# Altium footprint library Other.PcbLib: 12 footprints
Each footprint in its own frame and in the unit in brackets; x right, y up, seen from the top. Pads: shape width x height; smd on the part's side, far side on the other; paste and mask are expansions set on the pad; w line width, h text height; cw(c..) or ccw(c..) is an arc to the next point about the centre after c.
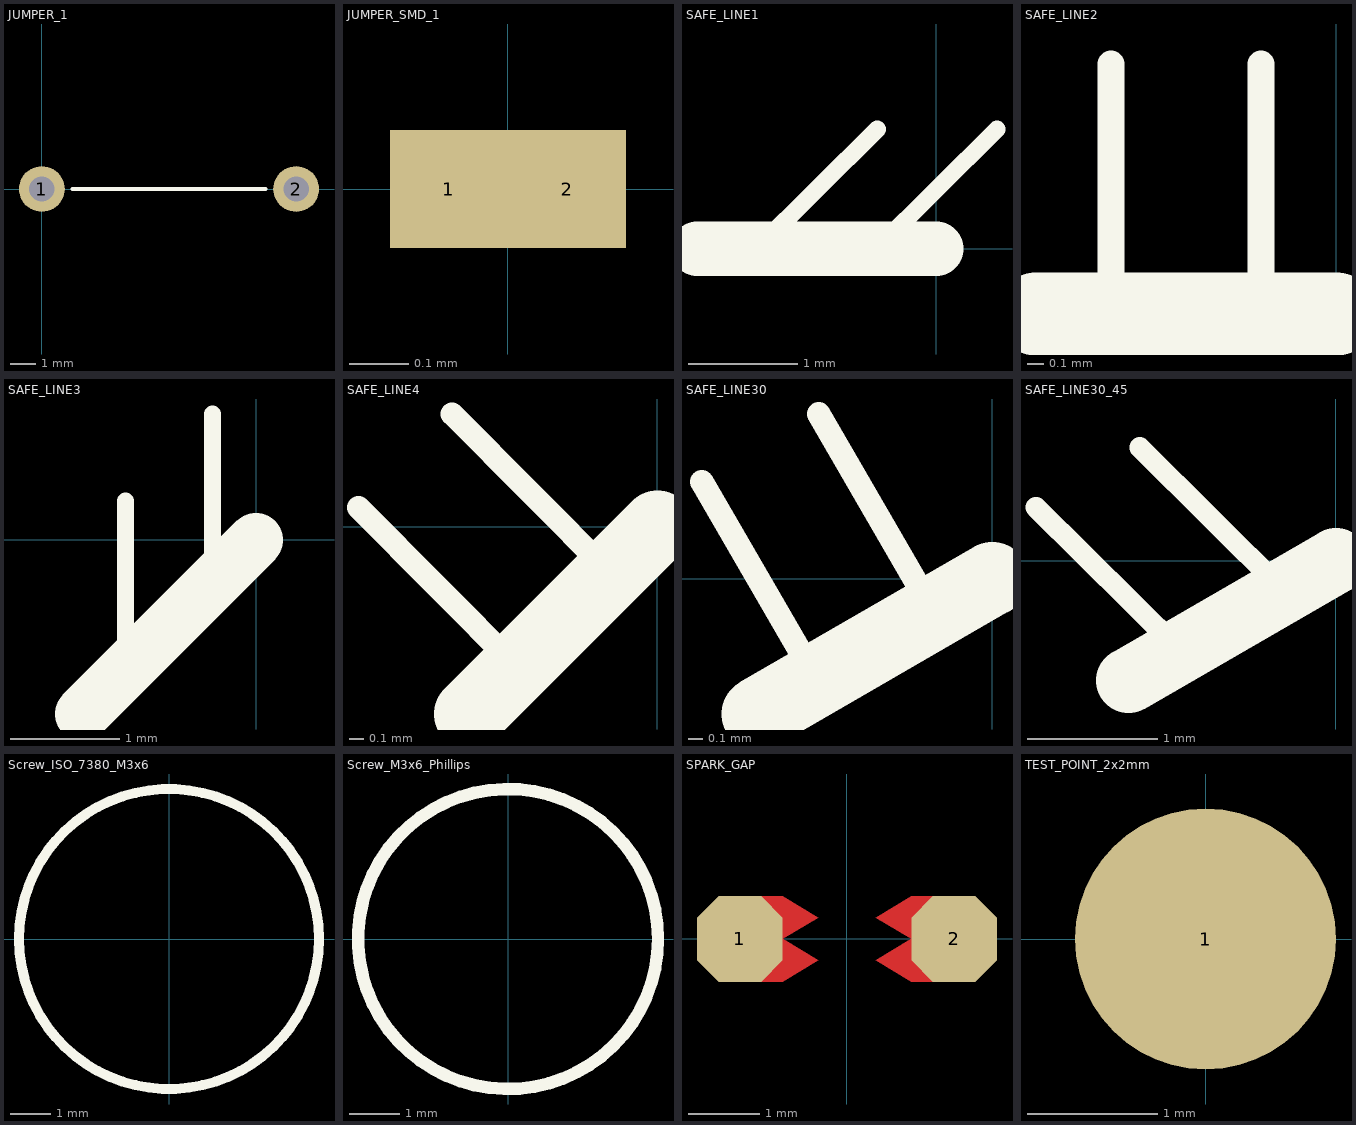
[diagram p0: the footprints below, top view; thin cyan lines are the x and y axes]

## JUMPER_1 [mm]
height 1
pads (2):
  round 1.8 hole 1: 1(0,0) 2(10,0)
Top Overlay:
  lines w0.15: 1.2,0 8.8,0
3D body: height 0.8, standoff 0, extent 0,-0.399 10,0.399
3D body: height 0, standoff -3, extent 9.603,-0.399 10.4,0.399
3D body: height 0, standoff -3, extent -0.397,-0.399 0.4,0.399

## JUMPER_SMD_1 [mm]
height 1
pads (2):
  rect 0.2x0.2 smd paste-2539.97 mask+0.102: 1(-0.1,0) 2(0.1,0)

## SAFE_LINE1 [mm]
Top Overlay:
  lines w0.16: -1.65,0 -0.543,1.1 ; -0.55,0 0.557,1.1
  lines w0.5: -2.2,0 0,0

## SAFE_LINE2 [mm]
Top Overlay:
  lines w0.16: -1.35,0 -1.35,1.5 ; -0.45,0 -0.45,1.5
  lines w0.5: -1.8,0 0,0

## SAFE_LINE3 [mm]
Top Overlay:
  lines w0.16: -1.2,-1.2 -1.2,0.358 ; -0.4,-0.4 -0.4,1.158
  lines w0.5: -1.6,-1.6 0,0

## SAFE_LINE4 [mm]
Top Overlay:
  lines w0.16: -2.075,0.132 -0.975,-0.975 ; -1.425,0.782 -0.325,-0.325
  lines w0.5: -1.3,-1.3 0,0

## SAFE_LINE30 [mm]
Top Overlay:
  lines w0.16: -1.974,0.662 -1.194,-0.689 ; -1.178,1.122 -0.398,-0.23
  lines w0.5: -1.592,-0.919 0,0

## SAFE_LINE30_45 [mm]
Top Overlay:
  lines w0.16: -2.301,0.411 -1.194,-0.689 ; -1.505,0.87 -0.398,-0.23
  lines w0.5: -1.592,-0.919 0,0

## Screw_ISO_7380_M3x6 [mm]
height 2
Top Overlay:
  circle w0.25: c0,0 r3.75
3D body "iso 7380 M3x6 flangiata.stp": height 1.65, standoff -6, extent -3.45,-3.45 3.45,3.45

## Screw_M3x6_Phillips [mm]
height 2
Top Overlay:
  circle w0.25: c0,0 r3
3D body "M3x6 Philips Screw.stp": height 1.8, standoff -6, extent -2.65,-2.65 2.65,2.65

## SPARK_GAP [mm]
pads (2):
  oct 1.2x1.2 smd: 1(-1.5,0) 2(1.5,0)
Top Layer:
  region: -1.5,0.6 -0.9,0.6 -0.4,0.3 -0.9,0 -0.4,-0.3 -0.9,-0.6 -1.5,-0.6
  region: 1.5,-0.6 0.9,-0.6 0.4,-0.3 0.9,0 0.4,0.3 0.9,0.6 1.5,0.6
Top Solder:
  region: 1.1,0.6 1.1,-0.6 -1.1,-0.6 -1.1,0.6

## TEST_POINT_2x2mm [mm]
pads (1):
  round 2 smd: 1(0,0)
Top Layer:
  region: 0.9,-0.9
  region: -1.3,0.9